# Altium footprint library S4B-PH-SM4-TB(LF)(SN).PcbLib: 1 footprints
Each footprint in its own frame and in the unit in brackets; x right, y up, seen from the top. Pads: shape width x height; smd on the part's side, far side on the other; paste and mask are expansions set on the pad; w line width, h text height; cw(c..) or ccw(c..) is an arc to the next point about the centre after c.
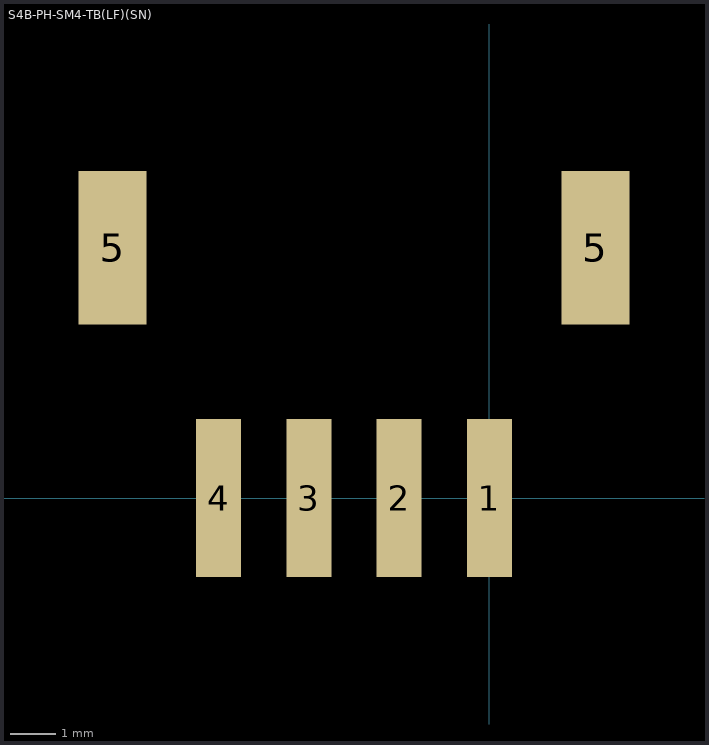
[diagram p0: the footprint, top view; thin cyan lines are the x and y axes]

## S4B-PH-SM4-TB(LF)(SN) [mm]
height 5.5
pads (6):
  rect 1x3.5 smd: 1(0,0) 2(-2,0) 3(-4,0) 4(-6,0)
  rect 1.5x3.4 smd: 5(-8.35,5.55) 5(2.35,5.55)
3D body "S4B-PH-SM4-TB.STEP": height 5.61, standoff 0.01, extent -8.896,-1.539 3.004,7.061